# Altium schematic symbol library WL-SMRW.SchLib: 1 symbol
Pins are listed as number, name and electrical type; pins without a type are passive.

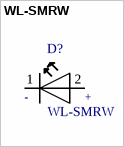
[diagram p0: symbol WL-SMRW]

## WL-SMRW
designator D?
LED, 1206, YELLOW, 80MCD, 589NM; Bulb Size: -; LED Colour: Yellow; Luminous Intens; MF: Wurth Electronics; MP: 156120YS75000; SnapEDA_Link: https://www.snapeda.com/parts/156120YS75000/Wurth%20Electronics%20Inc/view-part/?ref=snap; Availability: Good; Package: 1206 WÃ¼rth Elektronik; Price: 0.15 USD; Value: *
footprint WL-SMRW-1206-RECT
pins: 1 NEG (io), 2 POS (io)
text: -; +